# Altium schematic symbol library 1720420206.SchLib: 2 symbols
Pins are listed as number, name and electrical type; pins without a type are passive.

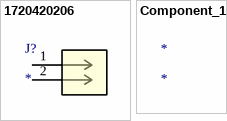
[diagram p0: symbols 1720420206 to Component_1]

## 1720420206
designator J?
No Description Available; Mfr_Name: Molex Connector Corporation; RefDes: RefDes; Type: Type
footprint CONN_SD-172042-001_02_BL_MOL
pins: 1, 2

## Component_1
designator *